# Altium footprint library water_quality.PcbLib: 12 footprints
Each footprint in its own frame and in the unit in brackets; x right, y up, seen from the top. Pads: shape width x height; smd on the part's side, far side on the other; paste and mask are expansions set on the pad; w line width, h text height; cw(c..) or ccw(c..) is an arc to the next point about the centre after c.
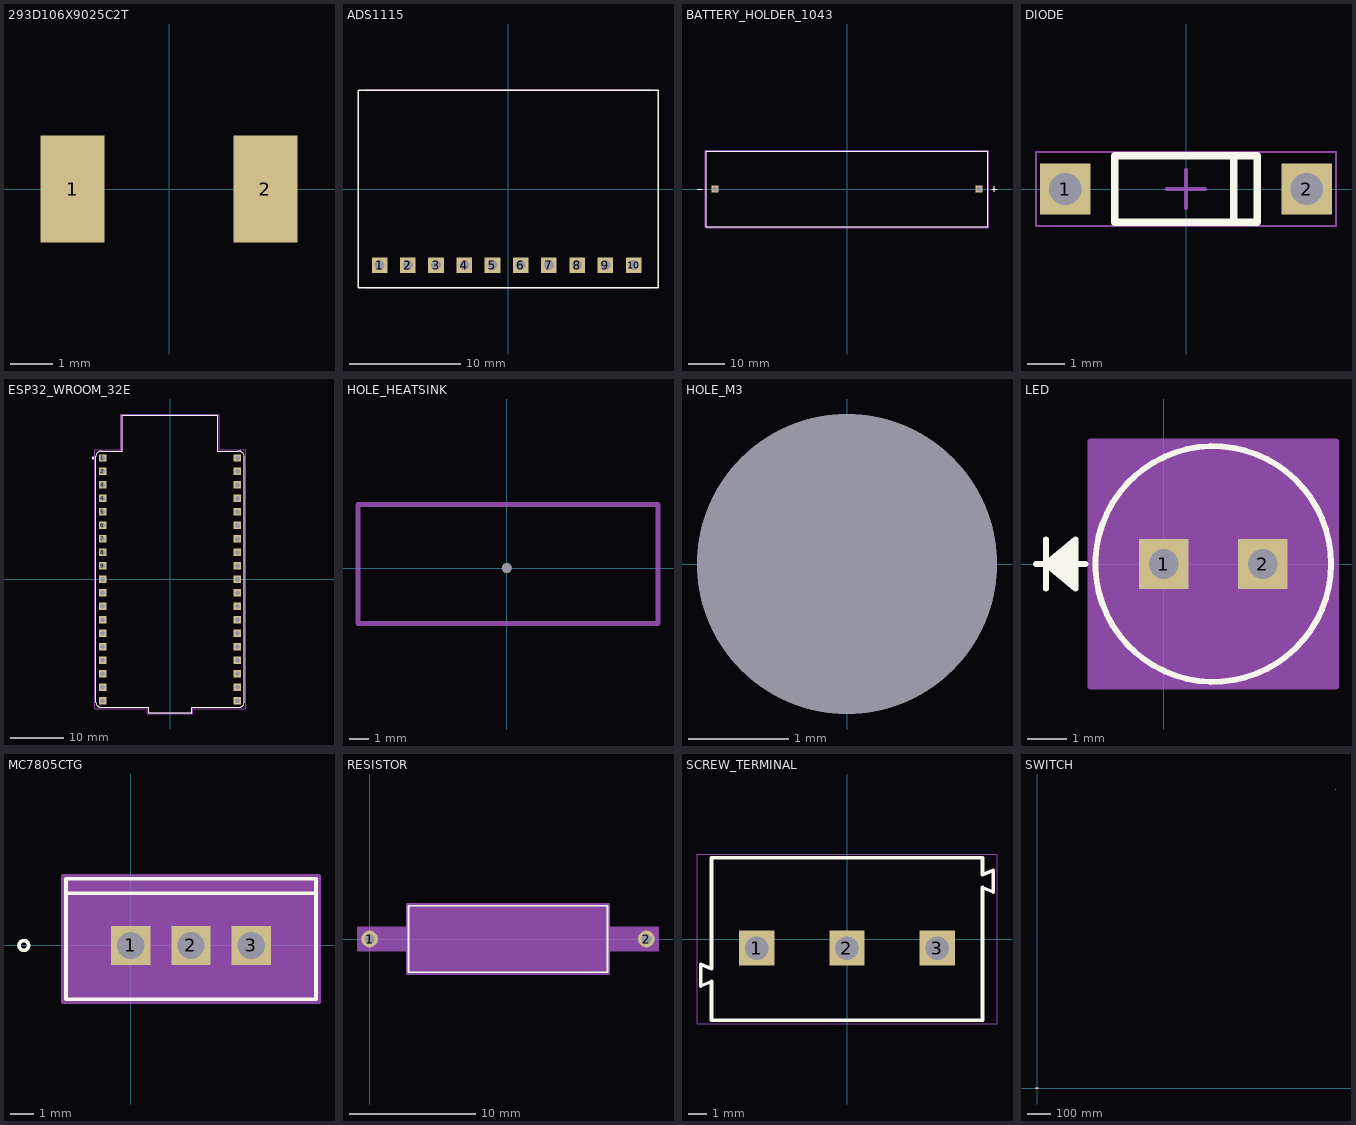
[diagram p0: the footprints below, top view; thin cyan lines are the x and y axes]

## 293D106X9025C2T [mm]
pads (2):
  rect 1.5x2.5 smd: 1(-2.25,0) 2(2.25,0)
3D body "C-CASE.stp": height 2.36, standoff -0.18, extent -3.048,-1.676 3.15,1.676

## ADS1115 [mil]
height 181.1
pads (10):
  rect 55.43x55.43 hole 35.43: 1(-455,-270) 2(-355,-270) 3(-255,-270) 4(-155,-270) 5(-55,-270) 6(45,-270) 7(145,-270) 8(245,-270) 9(345,-270) 10(445,-270)
Top Overlay:
  lines w5: -531.5,-350 531.5,-350 531.5,350 -531.5,350 -531.5,-350
Mechanical 13:
  lines w5: -500,-350 500,-350 ; -500,350 500,350

## BATTERY_HOLDER_1043 [mm]
height 14.86
pads (2):
  rect 1.98x1.98 hole 1.32: N(-36.11,0) P(36.11,0)
Top Overlay:
  lines w0.127: -41,0 -39.5,0 ; 39.5,0 41,0 ; 40.25,-0.75 40.25,0.75 ; -38.525,-10.325 38.525,-10.325 38.525,10.325 -38.525,10.325 -38.525,-10.325
Mechanical 13:
  lines w0.127: -41,0 -39.5,0 ; 39.5,0 41,0 ; 40.25,-0.75 40.25,0.75 ; -38.525,-10.325 38.525,-10.325 38.525,10.325 -38.525,10.325 -38.525,-10.325
Mechanical 15:
  lines w0.05: -38.775,-10.575 38.775,-10.575 38.775,10.575 -38.775,10.575 -38.775,-10.575
3D body "step_temp.STEP": height 14.86, standoff -3.56, extent -38.532,-10.325 38.532,10.325

## DIODE [mm] "THD, 2-Leads, Dia 1.765 mm, Body Length 3.775 mm"
height 1.765
pads (2):
  rect 1.35x1.35 hole 0.85: 1(-3.2,0) 2(3.2,0)
Top Overlay:
  lines w0.2: 1.27,-0.883 1.27,0.883 ; -1.887,-0.883 -1.887,0.883 1.887,0.883 1.887,-0.883 -1.887,-0.883
Mechanical 13:
  lines w0.1: -1.887,-0.883 1.887,-0.883 1.887,0.883 -1.887,0.883 -1.887,-0.883
Mechanical 15:
  lines w0.05: -3.975,-0.982 3.975,-0.982 3.975,0.982 -3.975,0.982 -3.975,-0.982
  lines w0.1: -0.5,0 0.5,0 ; 0,-0.5 0,0.5
3D body: height 1.76, standoff 0, extent -1.887,-0.883 1.887,0.876

## ESP32_WROOM_32E [mm]
pads (38):
  rect 1.408x1.408 / inner round 1.408 / far side rect 1.408x1.408 hole 0.9: 1(-12.7,22.835)
  rect 1.408x1.408 hole 0.9: 2(-12.7,20.295) 3(-12.7,17.755) 4(-12.7,15.215) 5(-12.7,12.675) 6(-12.7,10.135) 7(-12.7,7.595) 8(-12.7,5.055) 9(-12.7,2.515) 10(-12.7,-0.025) 11(-12.7,-2.565) 12(-12.7,-5.105) 13(-12.7,-7.645) 14(-12.7,-10.185) 15(-12.7,-12.725) 16(-12.7,-15.265) 17(-12.7,-17.805) 18(-12.7,-20.345) 19(-12.7,-22.885) 20(12.7,22.835) 21(12.7,20.295) 22(12.7,17.755) 24(12.7,15.215) 25(12.7,12.675) 26(12.7,10.135) 27(12.7,7.595) 28(12.7,5.055) 29(12.7,2.515) 30(12.7,-0.025) 31(12.7,-2.565) 32(12.7,-5.105) 33(12.7,-7.645) 34(12.7,-10.185) 35(12.7,-12.725) 36(12.7,-15.265) 37(12.7,-17.805) 38(12.7,-20.345) 39(12.7,-22.885)
Top Overlay:
  circle w0.2: c-14.5,22.835 r0.1
  lines w0.127: -13.97,-23.13 ccw(c-12.97,-23.13) -12.97,-24.13 -4.05,-24.13 -4.05,-25.13 4.05,-25.13 4.05,-24.13 12.97,-24.13 ccw(c12.97,-23.13) 13.97,-23.13 13.97,23.13 ccw(c12.97,23.13) 12.97,24.13 9,24.13 9,30.87 -9,30.87 -9,24.13 -12.97,24.13 ccw(c-12.97,23.13) -13.97,23.13 -13.97,-23.13
Mechanical 13:
  circle w0.2: c-14.5,22.835 r0.1
  lines w0.127: -13.97,-23.13 ccw(c-12.97,-23.13) -12.97,-24.13 -4.05,-24.13 -4.05,-25.13 4.05,-25.13 4.05,-24.13 12.97,-24.13 ccw(c12.97,-23.13) 13.97,-23.13 13.97,23.13 ccw(c12.97,23.13) 12.97,24.13 9,24.13 9,30.87 -9,30.87 -9,24.13 -12.97,24.13 ccw(c-12.97,23.13) -13.97,23.13 -13.97,-23.13
Mechanical 15:
  lines w0.05: -14.22,-24.38 -4.3,-24.38 -4.3,-25.38 4.3,-25.38 4.3,-24.38 14.22,-24.38 14.22,24.38 9.25,24.38 9.25,31.12 -9.25,31.12 -9.25,24.38 -14.22,24.38 -14.22,-24.38
3D body "ESP32-DEVKITC-32UE.step": height 7.85, standoff -5.5, extent -13.95,-24.62 13.95,24.13

## HOLE_HEATSINK [mm]
pads (1):
  round 0.5 hole 0.5: ""(0,0)
Mechanical 1:
  lines w0.254: -7.493,-2.794 -7.493,3.206 7.62,3.206 7.62,-2.794 -7.493,-2.794

## HOLE_M3 [mm]
pads (1):
  round 3 hole 3: ""(0,0)

## LED [mil]
pads (2):
  rect 50x50 / inner round 60 / far side round 50 hole 30 paste-99999 mask+0: 1(0,0) 2(100,0)
Top Overlay:
  circle w6: c50,0 r119
  lines w6: -129,0 -79,0 ; -119,-25 -119,25 ; -89,-20 -119,0 ; -89,-15 -119,0 ; -89,-10 -119,0 ; -89,-5 -119,0 ; -89,5 -119,0 ; -89,10 -119,0 ; -89,15 -119,0 ; -89,20 -119,0 ; -119,0 -89,-25 -89,25 -119,0
Mechanical 13:
  circle w0: c50,0 r114
  lines w1: -129,0 -79,0 ; -119,-25 -119,25 ; -89,-20 -119,0 ; -89,-15 -119,0 ; -89,-10 -119,0 ; -89,-5 -119,0 ; -89,5 -119,0 ; -89,10 -119,0 ; -89,15 -119,0 ; -89,20 -119,0 ; -119,0 -89,-25 -89,25 -119,0
Mechanical 15:
  region: 174,-124 -74,-124 -74,124 174,124
  lines w6: -74,-124 174,-124 174,124 -74,124 -74,-124

## MC7805CTG [mil]
pads (3):
  rect 65x65 / inner round 60 / far side rect 65x65 hole 45 paste-99999 mask+0: 1(0,0) 2(100,0)
  rect 65x65 / inner round 60 / far side round 65 hole 45 paste-99999 mask+0: 3(200,0)
Top Overlay:
  circle w6: c-177.5,0 r8
  lines w6: -102.5,86.75 302.5,86.75 ; -107.5,-89.25 307.5,-89.25 307.5,110.75 -107.5,110.75 -107.5,-89.25
Mechanical 13:
  circle w0: c-92.5,-74.25 r8
  lines w1: -102.5,81.75 302.5,81.75 ; -102.5,-84.25 302.5,-84.25 302.5,105.75 -102.5,105.75 -102.5,-84.25
  text "TAB" at 81.25,81.25 h25
Mechanical 15:
  region: 312.5,115.75 -112.5,115.75 -112.5,-94.25 312.5,-94.25
  lines w6: -112.5,-94.25 -112.5,115.75 312.5,115.75 312.5,-94.25 -112.5,-94.25
3D body "TO-220_221AB-01_ONS.step": height 971.85, standoff -43.15, extent -102.52,-84.25 302.52,105.75

## RESISTOR [mil]
pads (2):
  round 52 hole 32 paste-99999 mask+0: 1(0,0) 2(862.2,0)
Top Overlay:
  lines w6: 121.1,-103.5 741.1,-103.5 741.1,103.5 121.1,103.5 121.1,-103.5
Mechanical 13:
  lines w1: 0,0 126.1,0 ; 736.1,0 862.2,0 ; 126.1,-98.5 736.1,-98.5 736.1,98.5 126.1,98.5 126.1,-98.5
Mechanical 15:
  region: 116.1,-36 -36,-36 -36,36 116.1,36 116.1,108.5 746.1,108.5 746.1,36 898.2,36 898.2,-36 746.1,-36 746.1,-108.5 116.1,-108.5
  lines w6: -36,-36 -36,36 116.1,36 116.1,108.5 746.1,108.5 746.1,36 898.2,36 898.2,-36 746.1,-36 746.1,-108.5 116.1,-108.5 116.1,-36 -36,-36
3D body "RES_NKN3WS_15P5X5_YAG.step": height 197, standoff -100, extent -10.98,-98.5 873.19,98.5

## SCREW_TERMINAL [mm] "5,00mm - modular - blue - Horizontal entry with pressure clamp - 12,6mm height - 03p"
height 12.6
pads (3):
  rect 1.95x1.95 hole 1.3 paste-2539.97: 1(-5,-0.5)
  rect 1.95x1.95 hole 1.3: 2(0,-0.5) 3(5,-0.5)
Top Overlay:
  lines w0.2: -7.5,-2.35 -8.1,-2.6 -8.1,-1.4 -7.5,-1.65 -7.5,4.5 7.5,4.5 7.5,3.55 8.1,3.8 8.1,2.6 7.5,2.85 7.5,-4.5 -7.5,-4.5 -7.5,-2.35
Top Courtyard:
  lines w0.05: -8.3,-4.7 -8.3,4.7 8.3,4.7 8.3,-4.7 -8.3,-4.7
Top 3D Body:
  lines w0.1: -7.5,-2.35 -8.1,-2.6 -8.1,-1.4 -7.5,-1.65 -7.5,4.5 7.5,4.5 7.5,3.55 8.1,3.8 8.1,2.6 7.5,2.85 7.5,-4.5 -7.5,-4.5 -7.5,-2.35
Top Designator:
Top Component Outline:
  lines w0.1: -7.5,-2.35 -8.1,-2.6 -8.1,-1.4 -7.5,-1.65 -7.5,4.5 7.5,4.5 7.5,3.55 8.1,3.8 8.1,2.6 7.5,2.85 7.5,-4.5 -7.5,-4.5 -7.5,-2.35
Top Component Center:
  lines w0.05: -0.5,0 0.5,0 ; 0,-0.5 0,0.5
3D body "691101710003.stp": height 12.65, standoff -3.75, extent -8.1,-4.5 8.1,4.5

## SWITCH [mm]
pads (2):
  rect 1.2x2.5 smd paste+0 mask+0: 1(-2.5,-2.75) 2(2.5,-2.75)
Top Overlay:
  lines w0.2: -3.5,-1.8 -4.5,-1.8 -4.5,1.8 -3.5,1.8 ; 3.5,-1.8 4.5,-1.8 4.5,1.8 3.5,1.8
Top 3D Body:
  lines w0.2: -4.5,-1.8 4.5,-1.8 4.5,1.8 -4.5,1.8 -4.5,-1.8
Top Component Center:
  lines w0.05: 1260.61,1264.666 1261.61,1264.666 ; 1261.11,1264.166 1261.11,1265.166
  lines w0.1: -0.5,0 0.5,0 ; 0,-0.5 0,0.5 ; 1260.61,1264.666 1261.61,1264.666 ; 1261.11,1264.166 1261.11,1265.166
3D body "JS202011SCQN.step": height 5.51, standoff 0, extent -4.496,-3.619 4.496,3.873